# Altium footprint library T-CONNECT MALE.PcbLib: 1 footprints
Each footprint in its own frame and in the unit in brackets; x right, y up, seen from the top. Pads: shape width x height; smd on the part's side, far side on the other; paste and mask are expansions set on the pad; w line width, h text height; cw(c..) or ccw(c..) is an arc to the next point about the centre after c.
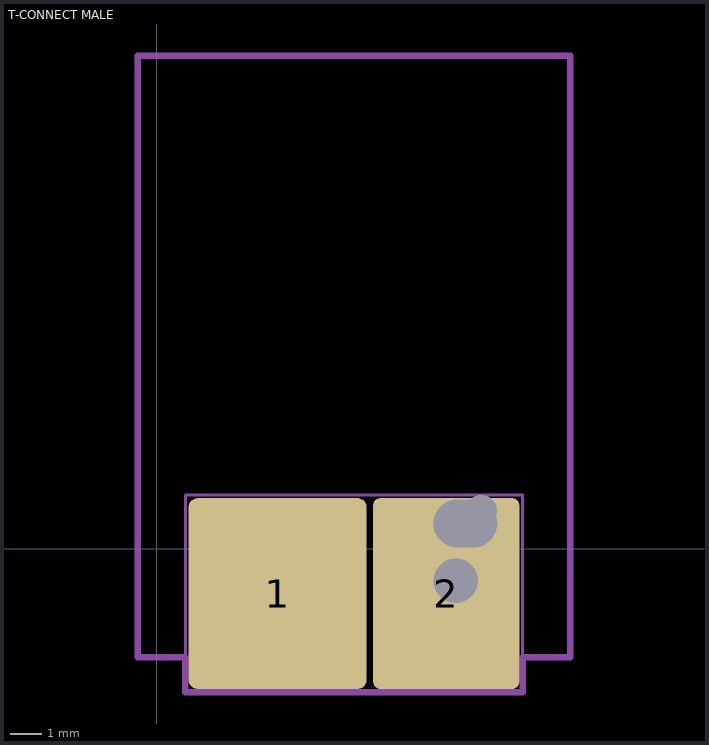
[diagram p0: the footprint, top view; thin cyan lines are the x and y axes]

## T-CONNECT MALE [mm]
pads (5):
  rrect10% 5.6x6 smd: 1(3.8,-1.4)
  rrect10% 4.6x6 smd: 2(9.1,-1.4)
  rrect10% 0x0 hole 2 slot 1.5 at 90 deg: MH0(9.7,0.8)
  rrect10% 0x0 hole 1.4 square: MH1(9.4,-1)
  rrect10% 0x0 hole 1 square: MH2(10.2,1.2)
Top Courtyard:
  lines w0.1: 0.9,-4.5 0.9,1.7 11.5,1.7 11.5,-4.5 0.9,-4.5
Top Assembly:
  lines w0.2: -0.6,-3.4 -0.6,15.5 13,15.5 13,-3.4 11.5,-3.4 11.5,-4.5 0.9,-4.5 0.9,-3.4 -0.6,-3.4
3D body "Deans-Male.SLDPRT": height 3.95, standoff -3.55, extent -0.6,-3.4 13,15.5